# Altium footprint library DI_LED_3mm_straight_x4.PcbLib: 1 footprints
Each footprint in its own frame and in the unit in brackets; x right, y up, seen from the top. Pads: shape width x height; smd on the part's side, far side on the other; paste and mask are expansions set on the pad; w line width, h text height; cw(c..) or ccw(c..) is an arc to the next point about the centre after c.
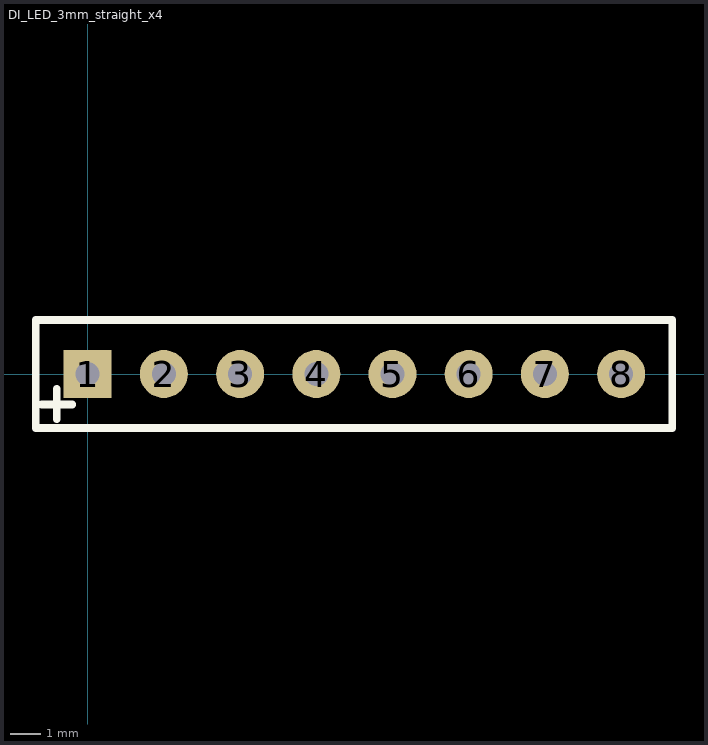
[diagram p0: the footprint, top view; thin cyan lines are the x and y axes]

## DI_LED_3mm_straight_x4 [mm]
pads (8):
  rect 1.6x1.6 hole 0.8: 1(0,0)
  round 1.6 hole 0.8: 2(2.54,0) 3(5.08,0) 4(7.62,0) 5(10.16,0) 6(12.7,0) 7(15.24,0) 8(17.78,0)
Top Overlay:
  lines w0.254: -1.524,-1.016 -0.508,-1.016 ; -1.035,-1.502 -1.035,-0.486 ; -1.727,-1.8 -1.727,1.8 19.482,1.8 19.482,-1.8 -1.727,-1.8
3D body: height 7.2, standoff 1, extent 18.592,-1.8 19.492,1.8
3D body: height 1, standoff 0, extent -1.702,-1.8 -0.802,1.8
3D body: height 8.2, standoff 7.2, extent -1.702,-1.8 -0.802,1.8
3D body: height 10, standoff 8.2, extent 15.022,-1.497 18.01,1.497
3D body: height 10, standoff 8.2, extent 9.942,-1.497 12.93,1.497
3D body: height 10, standoff 8.2, extent 4.862,-1.497 7.85,1.497
3D body: height 10, standoff 8.2, extent -0.218,-1.497 2.77,1.497
3D body: height 11.5, standoff 8.5, extent 15.026,-1.493 18.01,1.494
3D body: height 11.5, standoff 8.5, extent 9.946,-1.493 12.93,1.494
3D body: height 11.5, standoff 8.5, extent 4.866,-1.493 7.85,1.494
3D body: height 11.5, standoff 8.5, extent -0.214,-1.493 2.77,1.494
3D body: height 8.2, standoff 0, extent -0.802,-1.799 18.593,1.799